# Altium footprint library xfl4020d.PcbLib: 1 footprints
Each footprint in its own frame and in the unit in brackets; x right, y up, seen from the top. Pads: shape width x height; smd on the part's side, far side on the other; paste and mask are expansions set on the pad; w line width, h text height; cw(c..) or ccw(c..) is an arc to the next point about the centre after c.
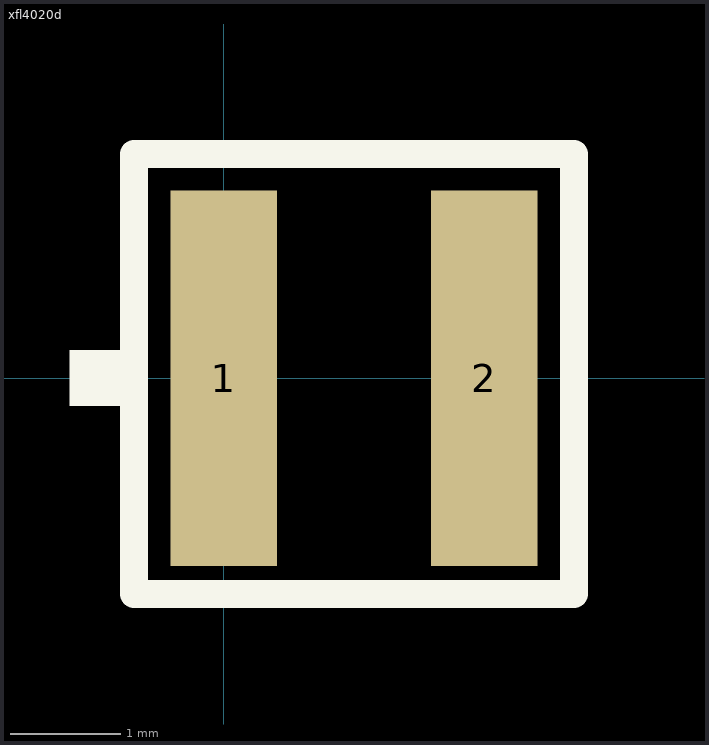
[diagram p0: the footprint, top view; thin cyan lines are the x and y axes]

## xfl4020d [mil]
pads (2):
  rect 38x134 smd mask+2.76: 1(0,0) 2(93,0)
Top Overlay:
  rectangle: -55,-10 -35,10
  lines w10: -32,-77 125,-77 125,80 -32,80 -32,-77
3D body: height 83.28, standoff 0.6, extent -38.15,-84.64 131.15,84.66